# Altium schematic symbol library J-Link 6-pin Needle Adapter.SCHLIB: 1 symbol
Pins are listed as number, name and electrical type; pins without a type are passive.

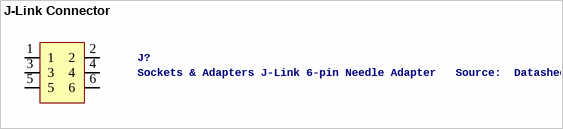
[diagram p0: symbol J-Link Connector]

## J-Link Connector
designator J?, comment Sockets & Adapters J-Link 6-pin Needle Adapter   Source:  Datasheet
Manufacturer_Name: Segger Microcontroller; GateName_1: G$1; SymbolName_1: 8.06.16; LibraryName: 8.06.16; DeviceSetName: 8.06.16; Package: 80616; Manufacturer_Part_Number: 8.06.16; Mouser_Part_Number: 943-8.06.16; Mouser_Price-Stock: https://www.mouser.com/Search/Refine.aspx?Keyword=943-8.06.16; Height: 1mm
footprint J-Link 6-pin Needle Adapter no legs
footprint J-Link 6-pin Needle Adapter with legs
pins: 1, 2, 3, 4, 5, 6